# Altium footprint library X322516MRB4SI.PcbLib: 1 footprints
Each footprint in its own frame and in the unit in brackets; x right, y up, seen from the top. Pads: shape width x height; smd on the part's side, far side on the other; paste and mask are expansions set on the pad; w line width, h text height; cw(c..) or ccw(c..) is an arc to the next point about the centre after c.
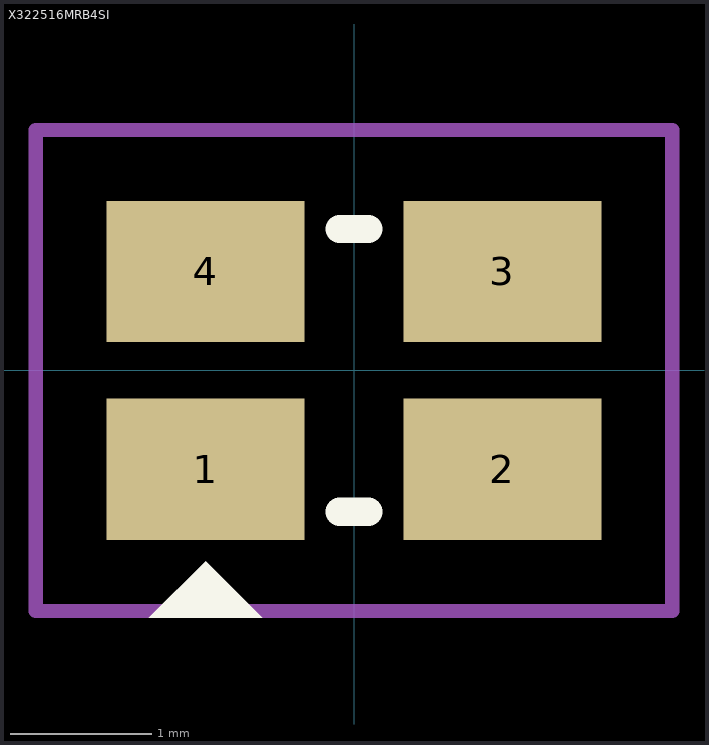
[diagram p0: the footprint, top view; thin cyan lines are the x and y axes]

## X322516MRB4SI [mm]
pads (4):
  rect 1.4x1 smd: 1(-1.05,-0.7) 2(1.05,-0.7) 3(1.05,0.7) 4(-1.05,0.7)
Top Overlay:
  region: -0.65,-1.75 -1.45,-1.75 -1.05,-1.35
  lines w0.2: -0.1,-1 0.1,-1 ; -0.1,1 0.1,1
Top Courtyard:
  lines w0.1: -2.25,-1.7 -1.725,-1.7 2.25,-1.7 2.25,1.7 -2.25,1.7 -2.25,-1.7
3D body "Crys_NDK_NZ2520SHA-80M-END5301A_eec.STEP": height 0.9, standoff 0, extent -1.25,-1 1.25,1